# EAGLE library part LM555CMX/NOPB (library EVGP_Estop_Motherboard)
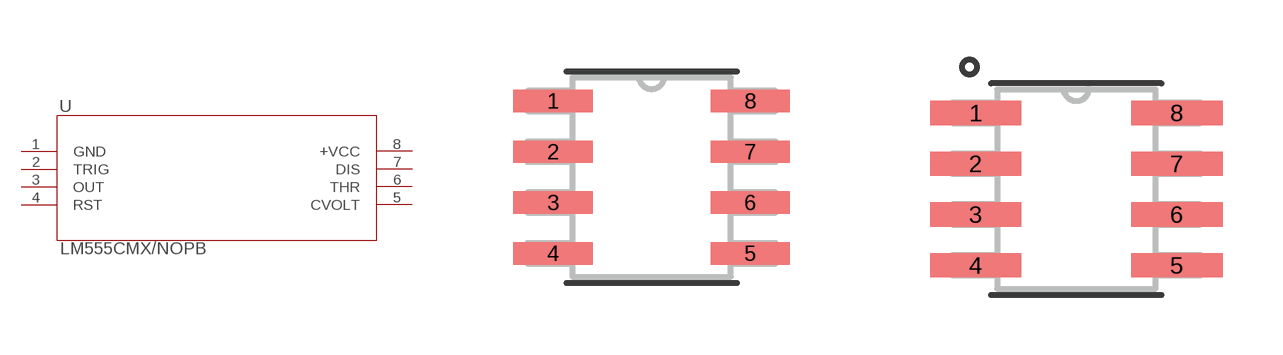
[diagram p2: symbol with the pads of M08A; footprints M08A, M08A-M]

Designator prefix U

## LM555CMX/NOPB (BUILT_BY: EMA_UL_Team; COPYRIGHT: Copyright (C) 2018 Accelerated Designs. All rights reserved; MANUFACTURER_PART_NUMBER: LM555CMX/NOPB; VENDOR: Texas Instruments)  [M08A]
1  GND  pas
2  TRIG  pas
3  OUT  pas
4  RST  pas
5  CVOLT  pas
6  THR  pas
7  DIS  pas
8  +VCC  pas

## LM555CMX/NOPBM08A-M (BUILT_BY: EMA_UL_Team; COPYRIGHT: Copyright (C) 2018 Accelerated Designs. All rights reserved; MANUFACTURER_PART_NUMBER: LM555CMX/NOPB; VENDOR: Texas Instruments)  [M08A-M]
Pads as for M08A

## LM555CMX/NOPBM08A-L (BUILT_BY: EMA_UL_Team; COPYRIGHT: Copyright (C) 2018 Accelerated Designs. All rights reserved; MANUFACTURER_PART_NUMBER: LM555CMX/NOPB; VENDOR: Texas Instruments)  [M08A-L]
Pads as for M08A

## Footprint M08A (pad centres in mm)
https://www.digikey.com/product-detail/en/texas-instruments/LM555CMX-NOPB/LM555CMX-NOPBTR-ND/334887
smd 1.981 x 0.559: 1 -2.464,1.905; 2 -2.464,0.635; 3 -2.464,-0.635; 4 -2.464,-1.905; 5 2.464,-1.905; 6 2.464,-0.635; 7 2.464,0.635; 8 2.464,1.905

## Footprint M08A-M (pad centres in mm)
https://www.digikey.com/product-detail/en/texas-instruments/LM555CMX-NOPB/LM555CMX-NOPBTR-ND/334887
smd 2.286 x 0.61: 1 -2.515,1.905; 2 -2.515,0.635; 3 -2.515,-0.635; 4 -2.515,-1.905; 5 2.515,-1.905; 6 2.515,-0.635; 7 2.515,0.635; 8 2.515,1.905

## Footprint M08A-L (pad centres in mm)
https://www.digikey.com/product-detail/en/texas-instruments/LM555CMX-NOPB/LM555CMX-NOPBTR-ND/334887
smd 1.676 x 0.508: 1 -2.413,1.905; 2 -2.413,0.635; 3 -2.413,-0.635; 4 -2.413,-1.905; 5 2.413,-1.905; 6 2.413,-0.635; 7 2.413,0.635; 8 2.413,1.905